# Altium footprint library Hauptplatine1.PcbLib: 50 footprints (part 2 of 4)
Each footprint in its own frame and in the unit in brackets; x right, y up, seen from the top. Pads: shape width x height; smd on the part's side, far side on the other; paste and mask are expansions set on the pad; w line width, h text height; cw(c..) or ccw(c..) is an arc to the next point about the centre after c.
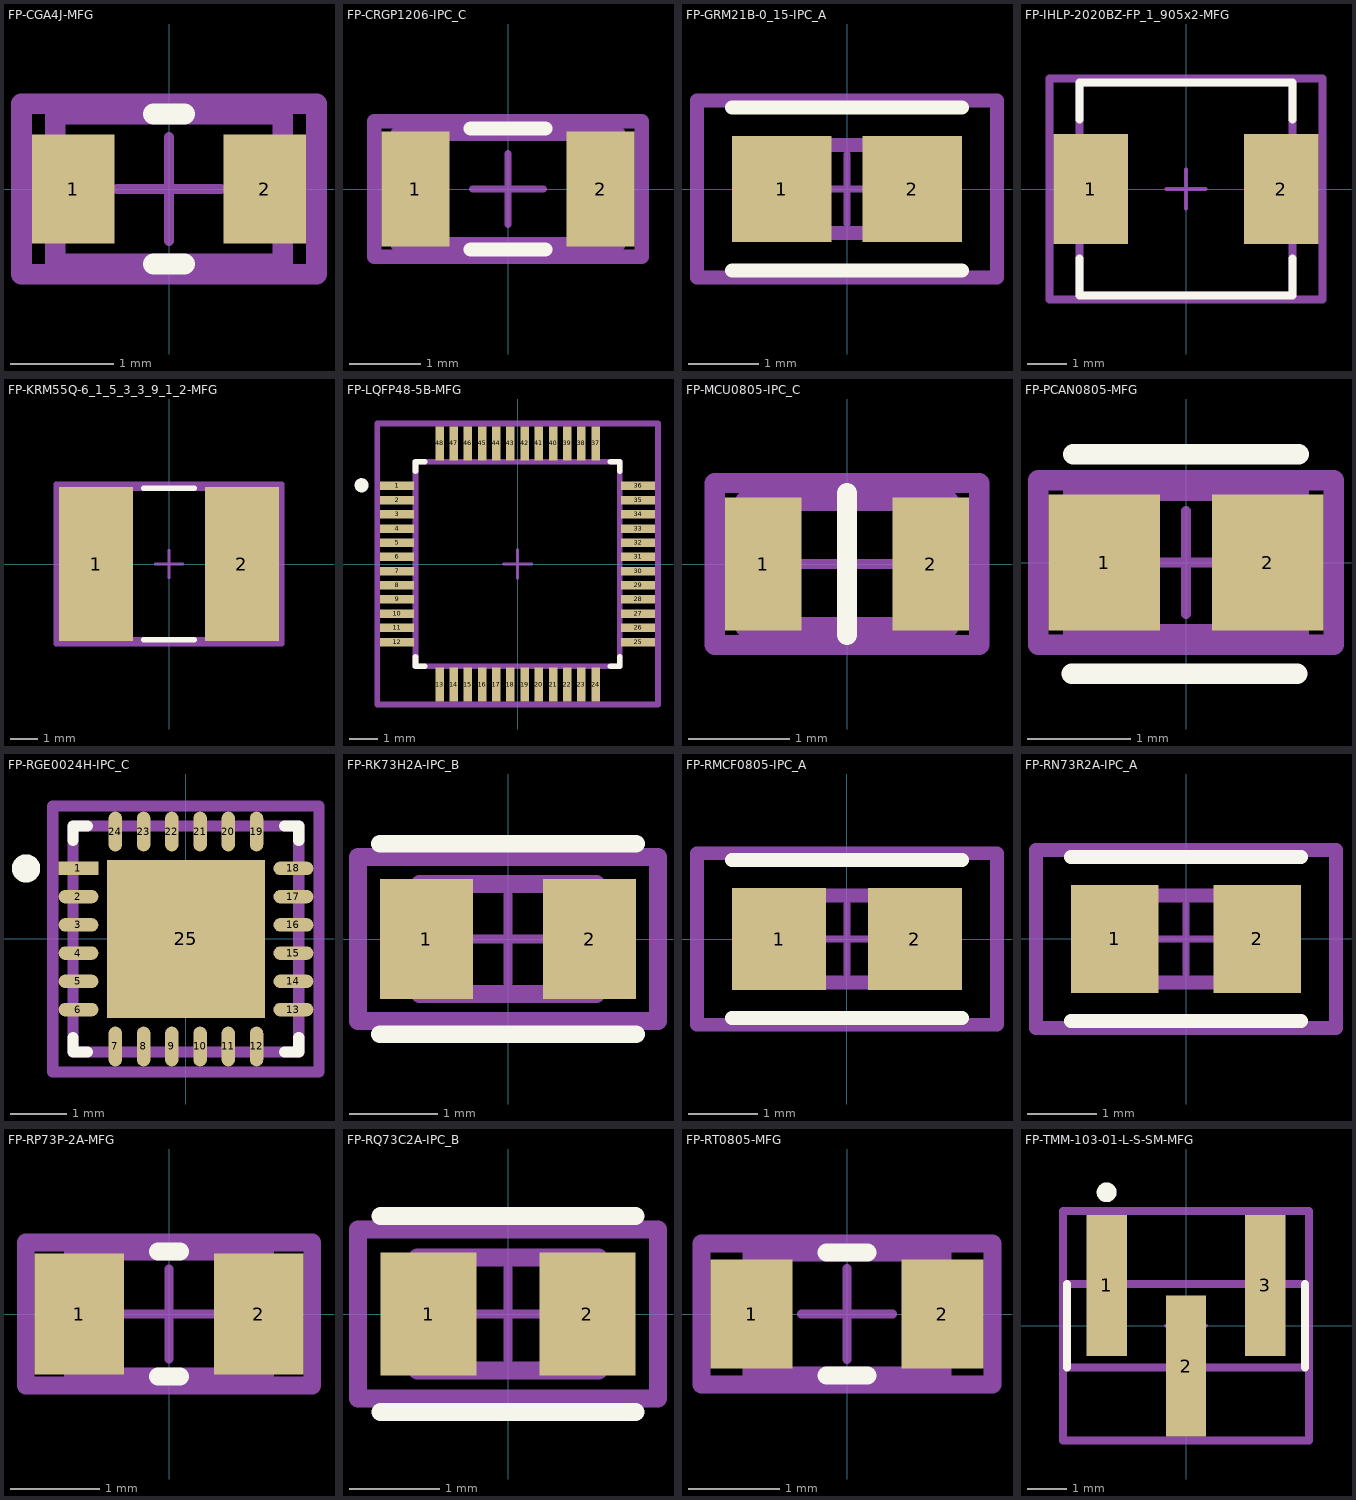
[diagram p1: the footprints below, top view; thin cyan lines are the x and y axes]

## FP-CGA4J-MFG [mm]
pads (2):
  rect 0.8x1.05 smd paste+0 mask+0: 1(-0.925,0) 2(0.925,0)
Top Overlay:
  lines w0.2: -0.15,-0.725 0.15,-0.725 ; -0.15,0.725 0.15,0.725
Top 3D Body:
  lines w0.2: -1.1,-0.725 1.1,-0.725 1.1,0.725 -1.1,0.725 -1.1,-0.725
Top Courtyard:
  lines w0.2: -1.425,-0.825 1.425,-0.825 1.425,0.825 -1.425,0.825 -1.425,-0.825
Top Assembly:
  lines w0.2: -1.425,-0.825 1.425,-0.825 1.425,0.825 -1.425,0.825 -1.425,-0.825
  text ".Designator" at 0,0.188 h1
Top Component Center:
  lines w0.1: -0.5,0 0.5,0 ; 0,-0.5 0,0.5
3D body "Cap_TDK_Corporation_CGA4J3X7R1H684M125AB_eec.STEP": height 0.25, standoff 0, extent -1.425,-0.825 1.425,0.825

## FP-CRGP1206-IPC_C [mm]
pads (2):
  rect 0.956x1.61 smd paste+0 mask+0: 1(-1.301,0) 2(1.301,0)
Top Overlay:
  lines w0.2: -0.523,-0.85 0.523,-0.85 ; -0.523,0.85 0.523,0.85
Top 3D Body:
  lines w0.2: -1.55,-0.775 1.55,-0.775 1.55,0.775 -1.55,0.775 -1.55,-0.775
Top Courtyard:
  lines w0.2: -1.879,-0.95 1.879,-0.95 1.879,0.95 -1.879,0.95 -1.879,-0.95
Top Assembly:
  lines w0.2: -1.879,-0.95 1.879,-0.95 1.879,0.95 -1.879,0.95 -1.879,-0.95
  text ".Designator" at 0,0.188 h1
Top Component Center:
  lines w0.1: -0.5,0 0.5,0 ; 0,-0.5 0,0.5
3D body "Res_TE_CRGP1206F4K7_eec.STEP": height 0.25, standoff 0, extent -1.879,-0.95 1.879,0.95

## FP-GRM21B-0_15-IPC_A [mm]
pads (2):
  rect 1.406x1.508 smd paste+0 mask+0: 1(-0.926,0) 2(0.926,0)
Top Overlay:
  lines w0.2: -1.629,-1.154 1.629,-1.154 ; -1.629,1.154 1.629,1.154
Top 3D Body:
  lines w0.2: -1,-0.625 -1,0.625 1,0.625 1,-0.625 -1,-0.625
Top Courtyard:
  lines w0.2: -2.129,-1.254 -2.129,1.254 2.129,1.254 2.129,-1.254 -2.129,-1.254
Top Assembly:
  lines w0.2: -2.129,-1.254 -2.129,1.254 2.129,1.254 2.129,-1.254 -2.129,-1.254
  text ".Designator" at 0,0.188 h1
Top Component Center:
  lines w0.1: -0.5,0 0.5,0 ; 0,-0.5 0,0.5
3D body "Cap_Murata_GRM21BC81C106KA73L_eec.STEP": height 0.25, standoff 0, extent -2.129,-1.254 2.129,1.254

## FP-IHLP-2020BZ-FP_1_905x2-MFG [mm]
pads (2):
  rect 1.905x2.79 smd paste+0 mask+0: 1(-2.425,0) 2(2.425,0)
Top Overlay:
  lines w0.2: -2.717,-1.77 -2.717,-2.717 2.717,-2.717 2.717,-1.77 ; -2.717,1.77 -2.717,2.717 2.717,2.717 2.717,1.77
Top 3D Body:
  lines w0.2: -2.717,-2.717 -2.717,2.717 2.717,2.717 2.717,-2.717 -2.717,-2.717
Top Courtyard:
  lines w0.2: -3.478,-2.817 -3.478,2.817 3.478,2.817 3.478,-2.817 -3.478,-2.817
Top Assembly:
  lines w0.2: -3.478,-2.817 -3.478,2.817 3.478,2.817 3.478,-2.817 -3.478,-2.817
  text ".Designator" at 0,0.188 h1
Top Component Center:
  lines w0.1: -0.5,0 0.5,0 ; 0,-0.5 0,0.5
3D body "Ind_Vishay_IHLP2020BZER100M11_eec.STEP": height 0.25, standoff 0, extent -3.478,-2.817 3.478,2.817

## FP-KRM55Q-6_1_5_3_3_9_1_2-MFG [mm]
pads (2):
  rect 2.7x5.6 smd paste+0 mask+0: 1(-2.65,0) 2(2.65,0)
Top Overlay:
  lines w0.2: -0.925,-2.75 0.925,-2.75 ; -0.925,2.75 0.925,2.75
Top 3D Body:
  lines w0.2: -3.25,-2.75 3.25,-2.75 3.25,2.75 -3.25,2.75 -3.25,-2.75
Top Courtyard:
  lines w0.2: -4.1,-2.9 4.1,-2.9 4.1,2.9 -4.1,2.9 -4.1,-2.9
Top Assembly:
  lines w0.2: -4.1,-2.9 4.1,-2.9 4.1,2.9 -4.1,2.9 -4.1,-2.9
  text ".Designator" at 0,0.188 h1
Top Component Center:
  lines w0.1: -0.5,0 0.5,0 ; 0,-0.5 0,0.5
3D body "Cap_Murata_KRM55QR7YA226KH01L_eec.STEP": height 0.25, standoff 0, extent -4.1,-2.9 4.1,2.9

## FP-LQFP48-5B-MFG [mm]
pads (48):
  rect 1.2x0.3 smd paste+0 mask+0: 1(-4.25,2.75) 2(-4.25,2.25) 3(-4.25,1.75) 4(-4.25,1.25) 5(-4.25,0.75) 6(-4.25,0.25) 7(-4.25,-0.25) 8(-4.25,-0.75) 9(-4.25,-1.25) 10(-4.25,-1.75) 11(-4.25,-2.25) 12(-4.25,-2.75) 25(4.25,-2.75) 26(4.25,-2.25) 27(4.25,-1.75) 28(4.25,-1.25) 29(4.25,-0.75) 30(4.25,-0.25) 31(4.25,0.25) 32(4.25,0.75) 33(4.25,1.25) 34(4.25,1.75) 35(4.25,2.25) 36(4.25,2.75)
  rect 0.3x1.2 smd paste+0 mask+0: 13(-2.75,-4.25) 14(-2.25,-4.25) 15(-1.75,-4.25) 16(-1.25,-4.25) 17(-0.75,-4.25) 18(-0.25,-4.25) 19(0.25,-4.25) 20(0.75,-4.25) 21(1.25,-4.25) 22(1.75,-4.25) 23(2.25,-4.25) 24(2.75,-4.25) 37(2.75,4.25) 38(2.25,4.25) 39(1.75,4.25) 40(1.25,4.25) 41(0.75,4.25) 42(0.25,4.25) 43(-0.25,4.25) 44(-0.75,4.25) 45(-1.25,4.25) 46(-1.75,4.25) 47(-2.25,4.25) 48(-2.75,4.25)
Top Overlay:
  circle w0.25: c-5.5,2.775 r0.125
  lines w0.2: -3.6,-3.275 -3.6,-3.6 -3.275,-3.6 ; -3.6,3.275 -3.6,3.6 -3.275,3.6 ; 3.275,-3.6 3.6,-3.6 3.6,-3.275 ; 3.275,3.6 3.6,3.6 3.6,3.275
Top 3D Body:
  lines w0.2: -3.6,-3.6 -3.6,3.6 3.6,3.6 3.6,-3.6 -3.6,-3.6
Top Courtyard:
  lines w0.2: -4.95,-4.95 -4.95,4.95 4.95,4.95 4.95,-4.95 -4.95,-4.95
Top Assembly:
  lines w0.2: -4.95,-4.95 -4.95,4.95 4.95,4.95 4.95,-4.95 -4.95,-4.95
  text ".Designator" at 0,0.188 h1
Top Component Center:
  lines w0.1: -0.5,0 0.5,0 ; 0,-0.5 0,0.5
3D body "IC_STMicroelectronics_STM32L072CBT6_eec.STEP": height 0.25, standoff 0, extent -4.95,-4.95 4.95,4.95

## FP-MCU0805-IPC_C [mm]
pads (2):
  rect 0.759x1.308 smd paste+0 mask+0: 1(-0.827,0) 2(0.827,0)
Top Overlay:
  lines w0.2: 0,-0.7 0,0.7
Top 3D Body:
  lines w0.2: -1,-0.625 1,-0.625 1,0.625 -1,0.625 -1,-0.625
Top Courtyard:
  lines w0.2: -1.306,-0.8 1.306,-0.8 1.306,0.8 -1.306,0.8 -1.306,-0.8
Top Assembly:
  lines w0.2: -1.306,-0.8 1.306,-0.8 1.306,0.8 -1.306,0.8 -1.306,-0.8
  text ".Designator" at 0,-0.001 h1
Top Component Center:
  lines w0.1: -0.5,0 0.5,0 ; 0,-0.5 0,0.5
3D body "Res_Vishay_MCU08050D2210BP100_eec.STEP": height 0.25, standoff 0, extent -1.306,-0.8 1.306,0.8

## FP-PCAN0805-MFG [mil]
pads (2):
  rect 42.5x52 smd paste+0 mask+0: 1(-31.25,0) 2(31.25,0)
Top Overlay:
  lines w7.87: -43.63,-42.48 42.37,-42.48 ; -43,41.34 43,41.34
Top 3D Body:
  lines w7.87: -43,-27.5 -43,27.5 43,27.5 43,-27.5 -43,-27.5
Top Courtyard:
  lines w7.87: -56.44,-31.44 -56.44,31.44 56.44,31.44 56.44,-31.44 -56.44,-31.44
Top Assembly:
  lines w7.87: -56.44,-31.44 -56.44,31.44 56.44,31.44 56.44,-31.44 -56.44,-31.44
  text ".Designator" at 0,7.39 h39.37
Top Component Center:
  lines w3.94: -19.68,0 19.68,0 ; 0,-19.68 0,19.68
3D body "Res_Vishay_PCAN0805E1001BST5_eec.STEP": height 10, standoff 0, extent -56.44,-31.44 56.44,31.44

## FP-RGE0024H-IPC_C [mm]
pads (25):
  rect 0.706x0.239 smd paste+0 mask+0: 1(-1.903,1.25)
  rrect100% 0.706x0.239 smd paste+0 mask+0: 2(-1.903,0.75) 3(-1.903,0.25) 4(-1.903,-0.25) 5(-1.903,-0.75) 6(-1.903,-1.25) 13(1.903,-1.25) 14(1.903,-0.75) 15(1.903,-0.25) 16(1.903,0.25) 17(1.903,0.75) 18(1.903,1.25)
  rrect100% 0.239x0.706 smd paste+0 mask+0: 7(-1.25,-1.903) 8(-0.75,-1.903) 9(-0.25,-1.903) 10(0.25,-1.903) 11(0.75,-1.903) 12(1.25,-1.903) 19(1.25,1.903) 20(0.75,1.903) 21(0.25,1.903) 22(-0.25,1.903) 23(-0.75,1.903) 24(-1.25,1.903)
  rect 2.8x2.8 smd paste-1000 mask+0: 25(0,0)
Top Overlay:
  circle w0.25: c-2.831,1.25 r0.125
  lines w0.2: -2,-1.745 -2,-2 -1.745,-2 ; -2,1.745 -2,2 -1.745,2 ; 1.745,-2 2,-2 2,-1.745 ; 1.745,2 2,2 2,1.745
Top Paste:
  rectangle: -0.885,-0.885 0.885,0.885
Top 3D Body:
  lines w0.2: -2,-2 2,-2 2,2 -2,2 -2,-2
Top Courtyard:
  lines w0.2: -2.356,-2.356 2.356,-2.356 2.356,2.356 -2.356,2.356 -2.356,-2.356
Top Assembly:
  lines w0.2: -2.356,-2.356 2.356,-2.356 2.356,2.356 -2.356,2.356 -2.356,-2.356
  text ".Designator" at 0,0.188 h1
Top Component Center:
  lines w0.1: -0.5,0 0.5,0 ; 0,-0.5 0,0.5
3D body "IC_Texas_Instruments_TRS3122ERGER_eec.STEP": height 0.25, standoff 0, extent -2.356,-2.356 2.356,2.356

## FP-RK73H2A-IPC_B [mm]
pads (2):
  rect 1.055x1.362 smd paste+0 mask+0: 1(-0.925,0) 2(0.925,0)
Top Overlay:
  lines w0.2: -1.453,-1.081 1.453,-1.081 ; -1.453,1.081 1.453,1.081
Top 3D Body:
  lines w0.2: -1,-0.625 -1,0.625 1,0.625 1,-0.625 -1,-0.625
Top Courtyard:
  lines w0.2: -1.703,-0.931 -1.703,0.931 1.703,0.931 1.703,-0.931 -1.703,-0.931
Top Assembly:
  lines w0.2: -1.703,-0.931 -1.703,0.931 1.703,0.931 1.703,-0.931 -1.703,-0.931
  text ".Designator" at 0,0.188 h1
Top Component Center:
  lines w0.1: -0.5,0 0.5,0 ; 0,-0.5 0,0.5
3D body "Res_KOA_Speer_RK73H2ATDD2322F_eec.STEP": height 0.25, standoff 0, extent -1.703,-0.931 1.703,0.931

## FP-RMCF0805-IPC_A [mm]
pads (2):
  rect 1.355x1.462 smd paste+0 mask+0: 1(-0.976,0) 2(0.976,0)
Top Overlay:
  lines w0.2: -1.653,-1.131 1.653,-1.131 ; -1.653,1.131 1.653,1.131
Top 3D Body:
  lines w0.2: -1,-0.625 1,-0.625 1,0.625 -1,0.625 -1,-0.625
Top Courtyard:
  lines w0.2: -2.153,-1.231 2.153,-1.231 2.153,1.231 -2.153,1.231 -2.153,-1.231
Top Assembly:
  lines w0.2: -2.153,-1.231 2.153,-1.231 2.153,1.231 -2.153,1.231 -2.153,-1.231
  text ".Designator" at 0,0.188 h1
Top Component Center:
  lines w0.1: -0.5,0 0.5,0 ; 0,-0.5 0,0.5
3D body "Res_Stackpole_Electronics_RMCF0805JT220K_eec.STEP": height 0.25, standoff 0, extent -2.153,-1.231 2.153,1.231

## FP-RN73R2A-IPC_A [mm]
pads (2):
  rect 1.255x1.556 smd paste+0 mask+0: 1(-1.025,0) 2(1.025,0)
Top Overlay:
  lines w0.2: -1.653,-1.178 1.653,-1.178 ; -1.653,1.178 1.653,1.178
Top 3D Body:
  lines w0.2: -1,-0.625 -1,0.625 1,0.625 1,-0.625 -1,-0.625
Top Courtyard:
  lines w0.2: -2.153,-1.278 -2.153,1.278 2.153,1.278 2.153,-1.278 -2.153,-1.278
Top Assembly:
  lines w0.2: -2.153,-1.278 -2.153,1.278 2.153,1.278 2.153,-1.278 -2.153,-1.278
  text ".Designator" at 0,0.188 h1
Top Component Center:
  lines w0.1: -0.5,0 0.5,0 ; 0,-0.5 0,0.5
3D body "Res_KOA_Speer_RN73R2ATTD3611C25_eec.STEP": height 0.25, standoff 0, extent -2.153,-1.278 2.153,1.278

## FP-RP73P-2A-MFG [mm]
pads (2):
  rect 1x1.35 smd paste+0 mask+0: 1(-1,0) 2(1,0)
Top Overlay:
  lines w0.2: -0.125,-0.7 0.125,-0.7 ; -0.125,0.7 0.125,0.7
Top 3D Body:
  lines w0.2: -1.075,-0.7 1.075,-0.7 1.075,0.7 -1.075,0.7 -1.075,-0.7
Top Courtyard:
  lines w0.2: -1.6,-0.8 1.6,-0.8 1.6,0.8 -1.6,0.8 -1.6,-0.8
Top Assembly:
  lines w0.2: -1.6,-0.8 1.6,-0.8 1.6,0.8 -1.6,0.8 -1.6,-0.8
  text ".Designator" at 0,0.188 h1
Top Component Center:
  lines w0.1: -0.5,0 0.5,0 ; 0,-0.5 0,0.5
3D body "Res_TE_Connectivity_RP73PF2A1K15BTDF_eec.STEP": height 0.25, standoff 0, extent -1.6,-0.8 1.6,0.8

## FP-RQ73C2A-IPC_B [mm]
pads (2):
  rect 1.058x1.362 smd paste+0 mask+0: 1(-0.877,0) 2(0.877,0)
Top Overlay:
  lines w0.2: -1.406,-1.081 1.406,-1.081 ; -1.406,1.081 1.406,1.081
Top 3D Body:
  lines w0.2: -1,-0.625 1,-0.625 1,0.625 -1,0.625 -1,-0.625
Top Courtyard:
  lines w0.2: -1.656,-0.931 1.656,-0.931 1.656,0.931 -1.656,0.931 -1.656,-0.931
Top Assembly:
  lines w0.2: -1.656,-0.931 1.656,-0.931 1.656,0.931 -1.656,0.931 -1.656,-0.931
  text ".Designator" at 0,0.188 h1
Top Component Center:
  lines w0.1: -0.5,0 0.5,0 ; 0,-0.5 0,0.5
3D body "Res_TE_Connectivity_RQ73C2A10R7BTD_eec.STEP": height 0.25, standoff 0, extent -1.656,-0.931 1.656,0.931

## FP-RT0805-MFG [mm]
pads (2):
  rect 0.9x1.2 smd paste+0 mask+0: 1(-1.05,0) 2(1.05,0)
Top Overlay:
  lines w0.2: -0.225,-0.675 0.225,-0.675 ; -0.225,0.675 0.225,0.675
Top 3D Body:
  lines w0.2: -1.05,-0.675 -1.05,0.675 1.05,0.675 1.05,-0.675 -1.05,-0.675
Top Courtyard:
  lines w0.2: -1.6,-0.775 -1.6,0.775 1.6,0.775 1.6,-0.775 -1.6,-0.775
Top Assembly:
  lines w0.2: -1.6,-0.775 -1.6,0.775 1.6,0.775 1.6,-0.775 -1.6,-0.775
  text ".Designator" at 0,0.188 h1
Top Component Center:
  lines w0.1: -0.5,0 0.5,0 ; 0,-0.5 0,0.5
3D body "Res_Yageo_RT0805WRB07165RL_eec.STEP": height 0.25, standoff 0, extent -1.6,-0.775 1.6,0.775

## FP-TMM-103-01-L-S-SM-MFG [mm]
pads (3):
  rect 1.02x3.56 smd paste+0 mask+0: 1(-2,1.015) 2(0,-1.015) 3(2,1.015)
Top Overlay:
  circle w0.25: c-2,3.363 r0.125
  lines w0.2: -3,-1.054 -3,1.054 ; 3,-1.054 3,1.054
Top 3D Body:
  lines w0.2: -3,-1.054 3,-1.054 3,1.054 -3,1.054 -3,-1.054
Top Courtyard:
  lines w0.2: -3.1,-2.895 3.1,-2.895 3.1,2.895 -3.1,2.895 -3.1,-2.895
Top Assembly:
  lines w0.2: -3.1,-2.895 3.1,-2.895 3.1,2.895 -3.1,2.895 -3.1,-2.895
  text ".Designator" at 0,-0.001 h1
Top Component Center:
  lines w0.1: -0.5,0 0.5,0 ; 0,-0.5 0,0.5
3D body "Conn_Samtec_TMM-103-01-L-S-SM_eec.STEP": height 0.25, standoff 0, extent -3.1,-2.895 3.1,2.895